# EAGLE library part MINISTM32F4X1 (library MiniSTM32F4x1_EAGLE)
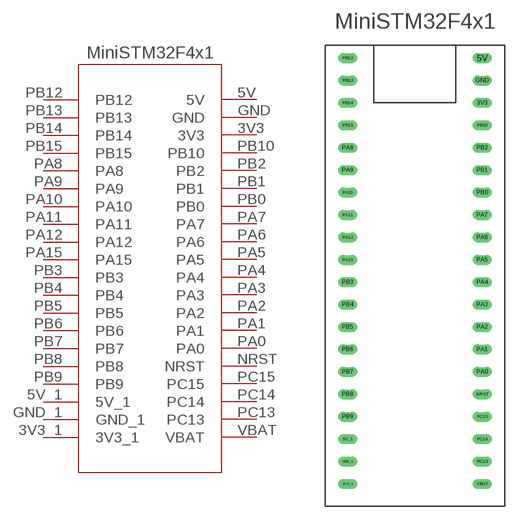
[diagram p0: symbol with the pads of MINISTM32F4X1; footprint MINISTM32F4X1]

Designator prefix -

## MINISTM32F4X1  [MINISTM32F4X1]
3V3  3V3  sup
3V3_1  3V3_1  sup
5V  5V  pwr
5V_1  5V_1  pwr
GND  GND  sup
GND_1  GND_1  sup
NRST  NRST
PA0  PA0
PA1  PA1
PA2  PA2
PA3  PA3
PA4  PA4
PA5  PA5
PA6  PA6
PA7  PA7
PA8  PA8
PA9  PA9
PA10  PA10
PA11  PA11
PA12  PA12
PA15  PA15
PB0  PB0
PB1  PB1
PB2  PB2
PB3  PB3
PB4  PB4
PB5  PB5
PB6  PB6
PB7  PB7
PB8  PB8
PB9  PB9
PB10  PB10
PB12  PB12
PB13  PB13
PB14  PB14
PB15  PB15
PC13  PC13
PC14  PC14
PC15  PC15
VBAT  VBAT

## Footprint MINISTM32F4X1 (pad centres in mm)
drill 0.6 long: 3V3 7.62,17.78; 3V3_1 -7.62,-25.4; 5V 7.62,22.86; 5V_1 -7.62,-20.32; GND 7.62,20.32; GND_1 -7.62,-22.86; NRST 7.62,-15.24; PA0 7.62,-12.7; PA1 7.62,-10.16; PA2 7.62,-7.62; PA3 7.62,-5.08; PA4 7.62,-2.54; PA5 7.62,0; PA6 7.62,2.54; PA7 7.62,5.08; PA8 -7.62,12.7; PA9 -7.62,10.16; PA10 -7.62,7.62; PA11 -7.62,5.08; PA12 -7.62,2.54; PA15 -7.62,0; PB0 7.62,7.62; PB1 7.62,10.16; PB2 7.62,12.7; PB3 -7.62,-2.54; PB4 -7.62,-5.08; PB5 -7.62,-7.62; PB6 -7.62,-10.16; PB7 -7.62,-12.7; PB8 -7.62,-15.24; PB9 -7.62,-17.78; PB10 7.62,15.24; PB12 -7.62,22.86; PB13 -7.62,20.32; PB14 -7.62,17.78; PB15 -7.62,15.24; PC13 7.62,-22.86; PC14 7.62,-20.32; PC15 7.62,-17.78; VBAT 7.62,-25.4